# EAGLE library part PINHD-1X10 (library SquantorConnectors)
PIN HEADER
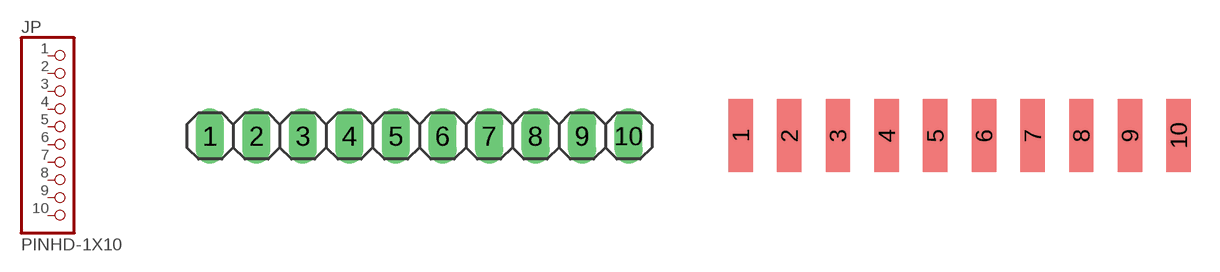
[diagram p10: symbol with the pads of 1X10; footprints 1X10, 1X10SIDE]

Designator prefix JP

## PINHD-1X10TH_NORMAL  [1X10]
1  1  pas
2  2  pas
3  3  pas
4  4  pas
5  5  pas
6  6  pas
7  7  pas
8  8  pas
9  9  pas
10  10  pas

## PINHD-1X10SMD_SIDE  [1X10SIDE]
Pads as for 1X10

## PINHD-1X10TH_SMALL  [1X10_SMALL]
Pads as for 1X10

## PINHD-1X10NORM_OCT  [1X10_NORMAL_OCT]
Pads as for 1X10

## Footprint 1X10 (pad centres in mm)
PIN HEADER
drill 1.016 long: 1 -11.43,0; 2 -8.89,0; 3 -6.35,0; 4 -3.81,0; 5 -1.27,0; 6 1.27,0; 7 3.81,0; 8 6.35,0; 9 8.89,0; 10 11.43,0

## Footprint 1X10SIDE (pad centres in mm)
smd 1.27 x 3.81: 1 -11.43,-2.54; 2 -8.89,-2.54; 3 -6.35,-2.54; 4 -3.81,-2.54; 5 -1.27,-2.54; 6 1.27,-2.54; 7 3.81,-2.54; 8 6.35,-2.54; 9 8.89,-2.54; 10 11.43,-2.54

## Footprint 1X10_SMALL (pad centres in mm)
drill 0.8 octagon: 1 -11.43,0; 2 -8.89,0; 3 -6.35,0; 4 -3.81,0; 5 -1.27,0; 6 1.27,0; 7 3.81,0; 8 6.35,0; 9 8.89,0; 10 11.43,0

## Footprint 1X10_NORMAL_OCT (pad centres in mm)
drill 1 square: 1 -11.43,0
drill 1 octagon: 2 -8.89,0; 3 -6.35,0; 4 -3.81,0; 5 -1.27,0; 6 1.27,0; 7 3.81,0; 8 6.35,0; 9 8.89,0; 10 11.43,0